# EAGLE library part STM32F103_LQFP48 (library microcontrollers)
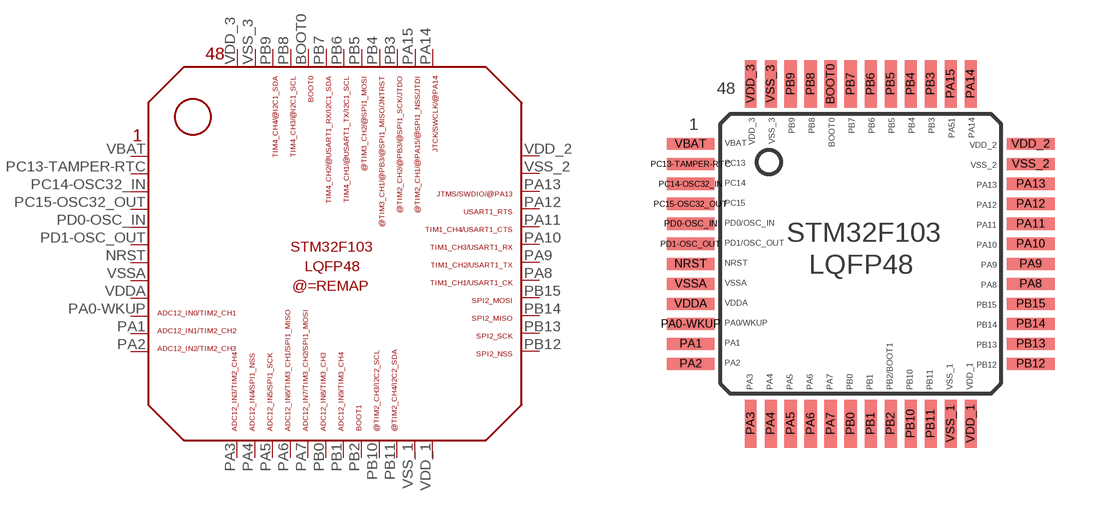
[diagram p10: symbol with the pads of STM32F103_LQFP48; footprint STM32F103_LQFP48]

Designator prefix -

## STM32F103_LQFP48  [STM32F103_LQFP48]
BOOT0  BOOT0
NRST  NRST
PA0-WKUP  PA0-WKUP
PA1  PA1
PA2  PA2
PA3  PA3
PA4  PA4
PA5  PA5
PA6  PA6
PA7  PA7
PA8  PA8
PA9  PA9
PA10  PA10
PA11  PA11
PA12  PA12
PA13  PA13
PA14  PA14
PA15  PA15
PB0  PB0
PB1  PB1
PB2  PB2
PB3  PB3
PB4  PB4
PB5  PB5
PB6  PB6
PB7  PB7
PB8  PB8
PB9  PB9
PB10  PB10
PB11  PB11
PB12  PB12
PB13  PB13
PB14  PB14
PB15  PB15
PC13-TAMPER-RTC  PC13-TAMPER-RTC
PC14-OSC32_IN  PC14-OSC32_IN
PC15-OSC32_OUT  PC15-OSC_OUT
PD0-OSC_IN  PD0-OSC_IN
PD1-OSC_OUT  PD1-OSC_OUT
VBAT  VBAT
VDD_1  VDD_1
VDD_2  VDD_2
VDD_3  VDD_3
VDDA  VDDA
VSS_1  VSS_1
VSS_2  VSS_2
VSS_3  VSS_3
VSSA  VSSA

## Footprint STM32F103_LQFP48 (pad centres in mm)
smd 0.3 x 1.2: BOOT0 -0.75,4.25; PA3 -2.75,-4.25; PA4 -2.25,-4.25; PA5 -1.75,-4.25; PA6 -1.25,-4.25; PA7 -0.75,-4.25; PA14 2.75,4.25; PA15 2.25,4.25; PB0 -0.25,-4.25; PB1 0.25,-4.25; PB2 0.75,-4.25; PB3 1.75,4.25; PB4 1.25,4.25; PB5 0.75,4.25; PB6 0.25,4.25; PB7 -0.25,4.25; PB8 -1.25,4.25; PB9 -1.75,4.25; PB10 1.25,-4.25; PB11 1.75,-4.25; VDD_1 2.75,-4.25; VDD_3 -2.75,4.25; VSS_1 2.25,-4.25; VSS_3 -2.25,4.25
smd 1.2 x 0.3: NRST -4.25,-0.25; PA0-WKUP -4.25,-1.75; PA1 -4.25,-2.25; PA2 -4.25,-2.75; PA8 4.25,-0.75; PA9 4.25,-0.25; PA10 4.25,0.25; PA11 4.25,0.75; PA12 4.25,1.25; PA13 4.25,1.75; PB12 4.25,-2.75; PB13 4.25,-2.25; PB14 4.25,-1.75; PB15 4.25,-1.25; PC13-TAMPER-RTC -4.25,2.25; PC14-OSC32_IN -4.25,1.75; PC15-OSC32_OUT -4.25,1.25; PD0-OSC_IN -4.25,0.75; PD1-OSC_OUT -4.25,0.25; VBAT -4.25,2.75; VDD_2 4.25,2.75; VDDA -4.25,-1.25; VSS_2 4.25,2.25; VSSA -4.25,-0.75